# EAGLE library part 693063010911 (library USB_c_conn)
WR-CRD SD CARD CONNECTOR PUSH & PULL WITH CARD DETECTION 9PINS=>Code : Con_I-O_COM_CRD_SD_Normal_693063010911 <http://katalog.we-online.de/media/images/eican/Con_I-O_COM_CRD_SD_Normal_693063010911_pf2.jpg> Details see: http://katalog.we-online.de/en/em/CRD_SD_PUSH_AND_PULL_CRD_DETETCION_9_PINS/693063010911 Created 2014-07-09, Karrer Zheng 2014 (C) Würth Elektronik
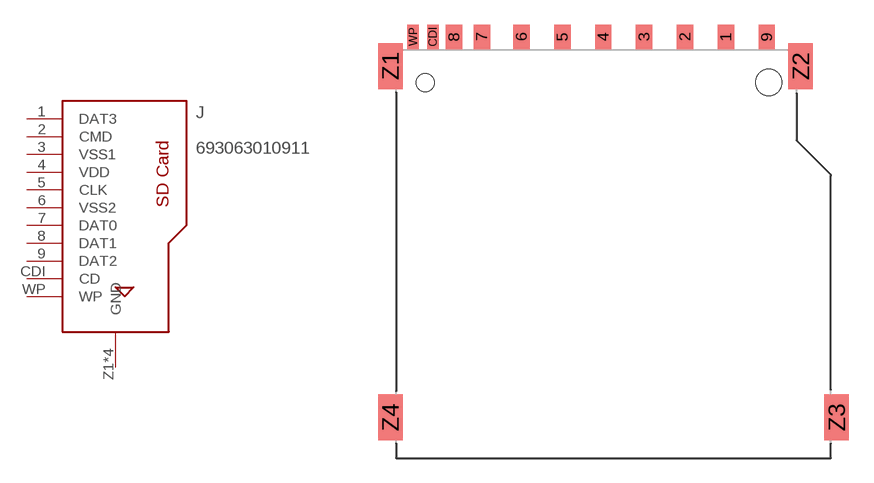
[diagram p89: symbol with the pads of 693063010911; footprint 693063010911]

Designator prefix J

## 693063010911  [693063010911]
1  DAT3
2  CMD
3  VSS1
4  VDD
5  CLK
6  VSS2
7  DAT0
8  DAT1
9  DAT2
CDI  CD
WP  WP
Z1  GND
Z2  GND
Z3  GND
Z4  GND

## Footprint 693063010911 (pad centres in mm)
WR-CRD SD CARD CONNECTOR PUSH & PULL WITH CARD DETECTION 9PINS
smd 1 x 1.5: 1 6.875,2.8; 2 4.375,2.8; 3 1.875,2.8; 4 -0.625,2.8; 5 -3.125,2.8; 6 -5.625,2.8; 7 -8.05,2.8; 8 -9.75,2.8; 9 9.375,2.8
smd 0.7 x 1.5: CDI -11.05,2.8; WP -12.25,2.8
smd 1.5 x 2.8: Z1 -13.65,1; Z2 11.45,1; Z3 13.65,-20.5; Z4 -13.65,-20.5
hole 1.1 at -11.5,0
hole 1.6 at 9.5,0